# Altium schematic symbol library EceParts.SchLib: 70 symbols
Pins are listed as number, name and electrical type; pins without a type are passive.

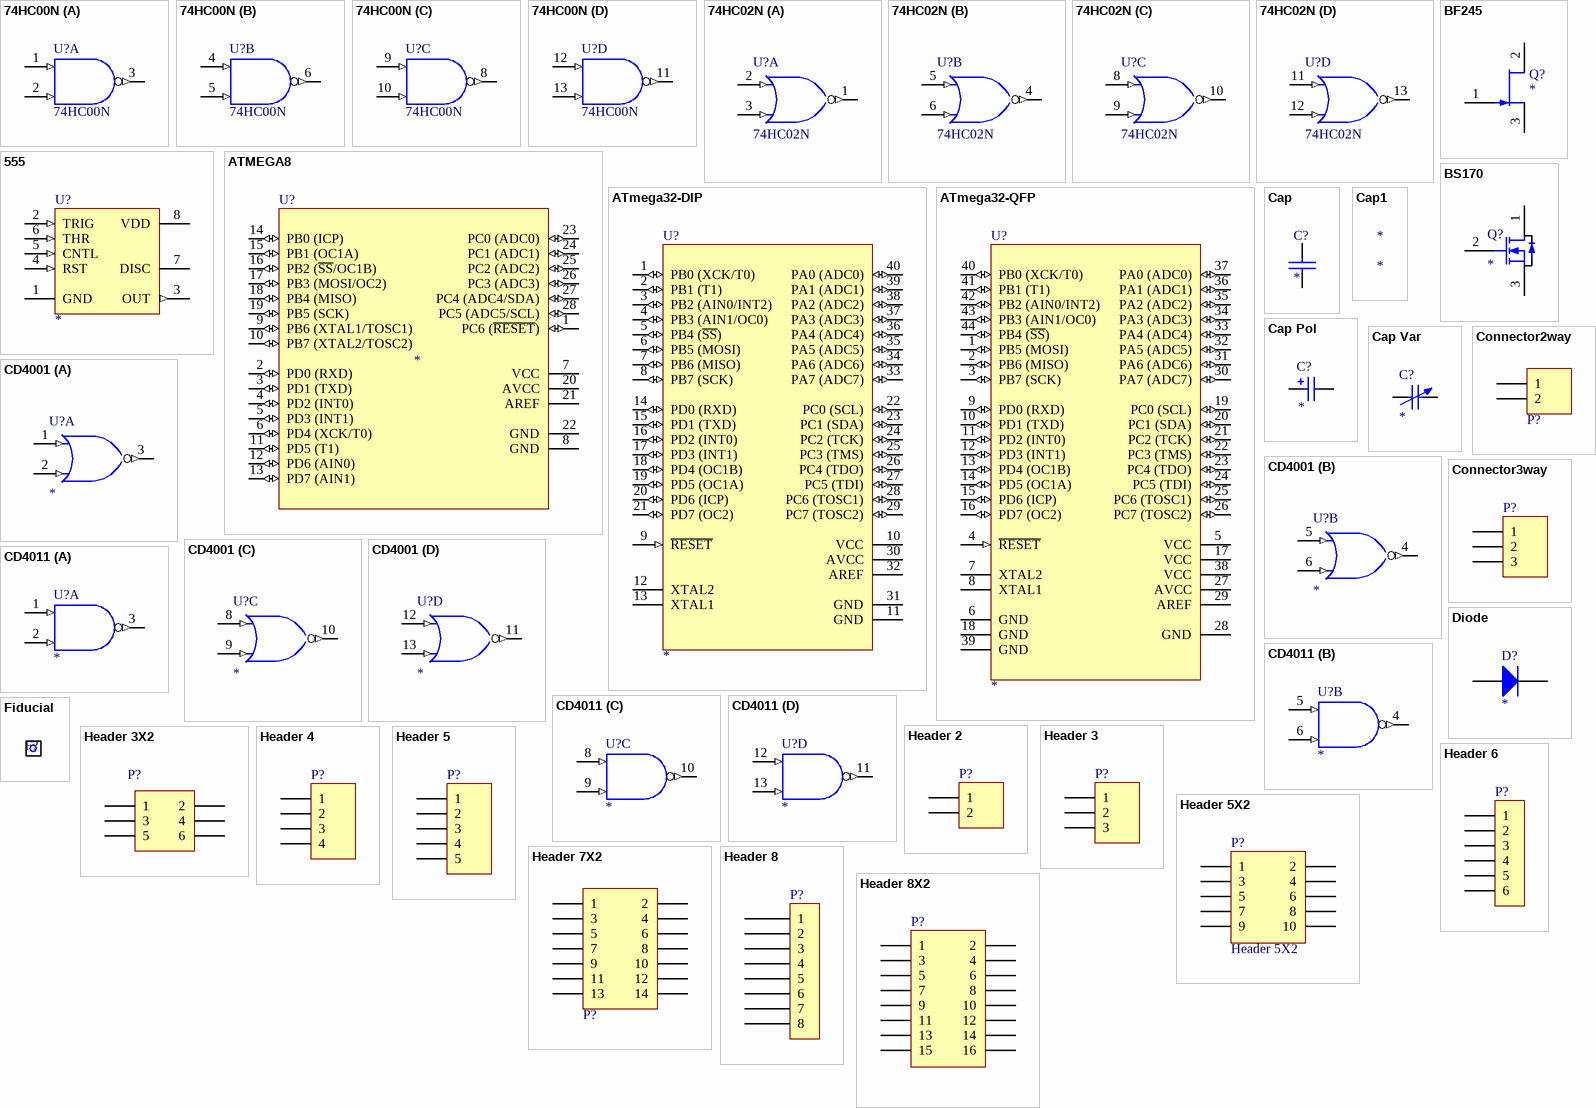
[diagram p0: symbols 74HC00N to Header 8X2]

## 74HC00N
designator U?
Quadruple 2-Input Positive-NAND Gate
pins on every part: 7 GND (power) hidden to GND, 14 VCC (power) hidden to VCC
part A pins: 1 A (in), 2 B (in), 3 Y (out)
part B pins: 4 A (in), 5 B (in), 6 Y (out)
part C pins: 8 Y (out), 9 A (in), 10 B (in)
part D pins: 11 Y (out), 12 A (in), 13 B (in)

## 74HC02N
designator U?
Quadruple 2-Input Positive-NOR Gate
pins on every part: 7 GND (power) hidden to GND, 14 VCC (power) hidden to VCC
part A pins: 1 Y (out), 2 A (in), 3 B (in)
part B pins: 4 Y (out), 5 A (in), 6 B (in)
part C pins: 8 A (in), 9 B (in), 10 Y (out)
part D pins: 11 A (in), 12 B (in), 13 Y (out)

## 555
designator U?
IC Timer
pins: 1 GND (power), 2 TRIG (in), 3 OUT (out), 4 RST (in), 5 CNTL (in), 6 THR (in), 7 DISC (oc), 8 VDD (power)

## ATMEGA8
designator U?
Atmel Micro; Value: AtMega8
pins: 1 PC6 (~{RESET}) (io), 2 PD0 (RXD) (io), 3 PD1 (TXD) (io), 4 PD2 (INT0) (io), 5 PD3 (INT1) (io), 6 PD4 (XCK/T0) (io), 7 VCC (power), 8 GND (power), 9 PB6 (XTAL1/TOSC1) (io), 10 PB7 (XTAL2/TOSC2) (io), 11 PD5 (T1) (io), 12 PD6 (AIN0) (io), 13 PD7 (AIN1) (io), 14 PB0 (ICP) (io), 15 PB1 (OC1A) (io), 16 PB2 (~{SS}/OC1B) (io), 17 PB3 (MOSI/OC2) (io), 18 PB4 (MISO) (io), 19 PB5 (SCK) (io), 20 AVCC (power), 21 AREF, 22 GND (power), 23 PC0 (ADC0) (io), 24 PC1 (ADC1) (io), 25 PC2 (ADC2) (io), 26 PC3 (ADC3) (io), 27 PC4 (ADC4/SDA) (io), 28 PC5 (ADC5/SCL) (io)

## ATmega32-DIP
designator U?
AVR 32K Bytes of In-System Programmable Flash Memory
pins: 1 PB0 (XCK/T0) (io), 2 PB1 (T1) (io), 3 PB2 (AIN0/INT2) (io), 4 PB3 (AIN1/OC0) (io), 5 PB4 (~{SS}) (io), 6 PB5 (MOSI) (io), 7 PB6 (MISO) (io), 8 PB7 (SCK) (io), 9 ~{RESET} (in), 10 VCC (power), 11 GND (power), 12 XTAL2, 13 XTAL1, 14 PD0 (RXD) (io), 15 PD1 (TXD) (io), 16 PD2 (INT0) (io), 17 PD3 (INT1) (io), 18 PD4 (OC1B) (io), 19 PD5 (OC1A) (io), 20 PD6 (ICP) (io), 21 PD7 (OC2) (io), 22 PC0 (SCL) (io), 23 PC1 (SDA) (io), 24 PC2 (TCK) (io), 25 PC3 (TMS) (io), 26 PC4 (TDO) (io), 27 PC5 (TDI) (io), 28 PC6 (TOSC1) (io), 29 PC7 (TOSC2) (io), 30 AVCC (power), 31 GND (power), 32 AREF, 33 PA7 (ADC7) (io), 34 PA6 (ADC6) (io), 35 PA5 (ADC5) (io), 36 PA4 (ADC4) (io), 37 PA3 (ADC3) (io), 38 PA2 (ADC2) (io), 39 PA1 (ADC1) (io), 40 PA0 (ADC0) (io)

## ATmega32-QFP
designator U?
AVR 32K Bytes of In-System Programmable Flash Memory
pins: 1 PB5 (MOSI) (io), 2 PB6 (MISO) (io), 3 PB7 (SCK) (io), 4 ~{RESET} (in), 5 VCC (power), 6 GND (power), 7 XTAL2, 8 XTAL1, 9 PD0 (RXD) (io), 10 PD1 (TXD) (io), 11 PD2 (INT0) (io), 12 PD3 (INT1) (io), 13 PD4 (OC1B) (io), 14 PD5 (OC1A) (io), 15 PD6 (ICP) (io), 16 PD7 (OC2) (io), 17 VCC (power), 18 GND (power), 19 PC0 (SCL) (io), 20 PC1 (SDA) (io), 21 PC2 (TCK) (io), 22 PC3 (TMS) (io), 23 PC4 (TDO) (io), 24 PC5 (TDI) (io), 25 PC6 (TOSC1) (io), 26 PC7 (TOSC2) (io), 27 AVCC (power), 28 GND (power), 29 AREF, 30 PA7 (ADC7) (io), 31 PA6 (ADC6) (io), 32 PA5 (ADC5) (io), 33 PA4 (ADC4) (io), 34 PA3 (ADC3) (io), 35 PA2 (ADC2) (io), 36 PA1 (ADC1) (io), 37 PA0 (ADC0) (io), 38 VCC (power), 39 GND (power), 40 PB0 (XCK/T0) (io), 41 PB1 (T1) (io), 42 PB2 (AIN0/INT2) (io), 43 PB3 (AIN1/OC0) (io), 44 PB4 (~{SS}) (io)

## BF245
designator Q?
N channel SFET
footprint ece-TO-92
pins: 1 G, 2 D, 3 S

## BS170
designator Q?
N Type MOSFET
pins: 1 D, 2 G, 3 S

## Cap
designator C?
Capacitor; Value: *
pins: 1, 2

## Cap1
designator *

## Cap Pol
designator C?
Polarized Capacitor (Radial); Revision: July-2002: Re-released for DXP Platform.; Value: *
pins: 1, 2

## Cap Var
designator C?
Variable or Adjustable Capacitor; Value: *
pins: 1, 2

## CD4001
designator U?
Quad 2-Input NOR
pins on every part: 7 GND (power) hidden to GND, 14 VDD (power) hidden to VDD
part A pins: 1 A (in), 2 B (in), 3 J (out)
part B pins: 4 J (out), 5 A (in), 6 B (in)
part C pins: 8 A (in), 9 B (in), 10 J (out)
part D pins: 11 J (out), 12 A (in), 13 B (in)

## CD4011
designator U?
Quad 2-Input NAND
pins on every part: 7 GND (power) hidden to GND, 14 VDD (power) hidden to VDD
part A pins: 1 A (in), 2 B (in), 3 J (out)
part B pins: 4 J (out), 5 A (in), 6 B (in)
part C pins: 8 A (in), 9 F (in), 10 J (out)
part D pins: 11 J (out), 12 A (in), 13 B (in)

## Connector2way
designator P?  (value not drawn)
2 way screw connector; Value: *
pins: 1, 2

## Connector3way
designator P?
Header, 3-Pin; Value: *
pins: 1, 2, 3

## Diode
designator D?
Diode; Value: *
pins: 1 A, 2 K

## Fiducial
designator F?  (value not drawn)
Socket; LatestRevisionDate: 17-Jul-2002; LatestRevisionNote: Re-released for DXP Platform.; Publisher: Altium Limited

## Header 2
designator P?  (value not drawn)
Header, 2-Pin
pins: 1, 2

## Header 3
designator P?  (value not drawn)
Header, 3-Pin
pins: 1, 2, 3

## Header 3X2
designator P?
Header, 3-Pin, Dual row
pins: 1, 2, 3, 4, 5, 6

## Header 4
designator P?  (value not drawn)
Header, 4-Pin
pins: 1, 2, 3, 4

## Header 5
designator P?  (value not drawn)
Header, 5-Pin
pins: 1, 2, 3, 4, 5

## Header 5X2
designator P?
Header, 5-Pin, Dual row
pins: 1, 2, 3, 4, 5, 6, 7, 8, 9, 10

## Header 6
designator P?
Header, 6-Pin
pins: 1, 2, 3, 4, 5, 6

## Header 7X2
designator P?
Header, 7-Pin, Dual row
pins: 1, 2, 3, 4, 5, 6, 7, 8, 9, 10, 11, 12, 13, 14

## Header 8
designator P?
Header, 8-Pin
pins: 1, 2, 3, 4, 5, 6, 7, 8

## Header 8X2
designator P?
Header, 8-Pin, Dual row
pins: 1, 2, 3, 4, 5, 6, 7, 8, 9, 10, 11, 12, 13, 14, 15, 16

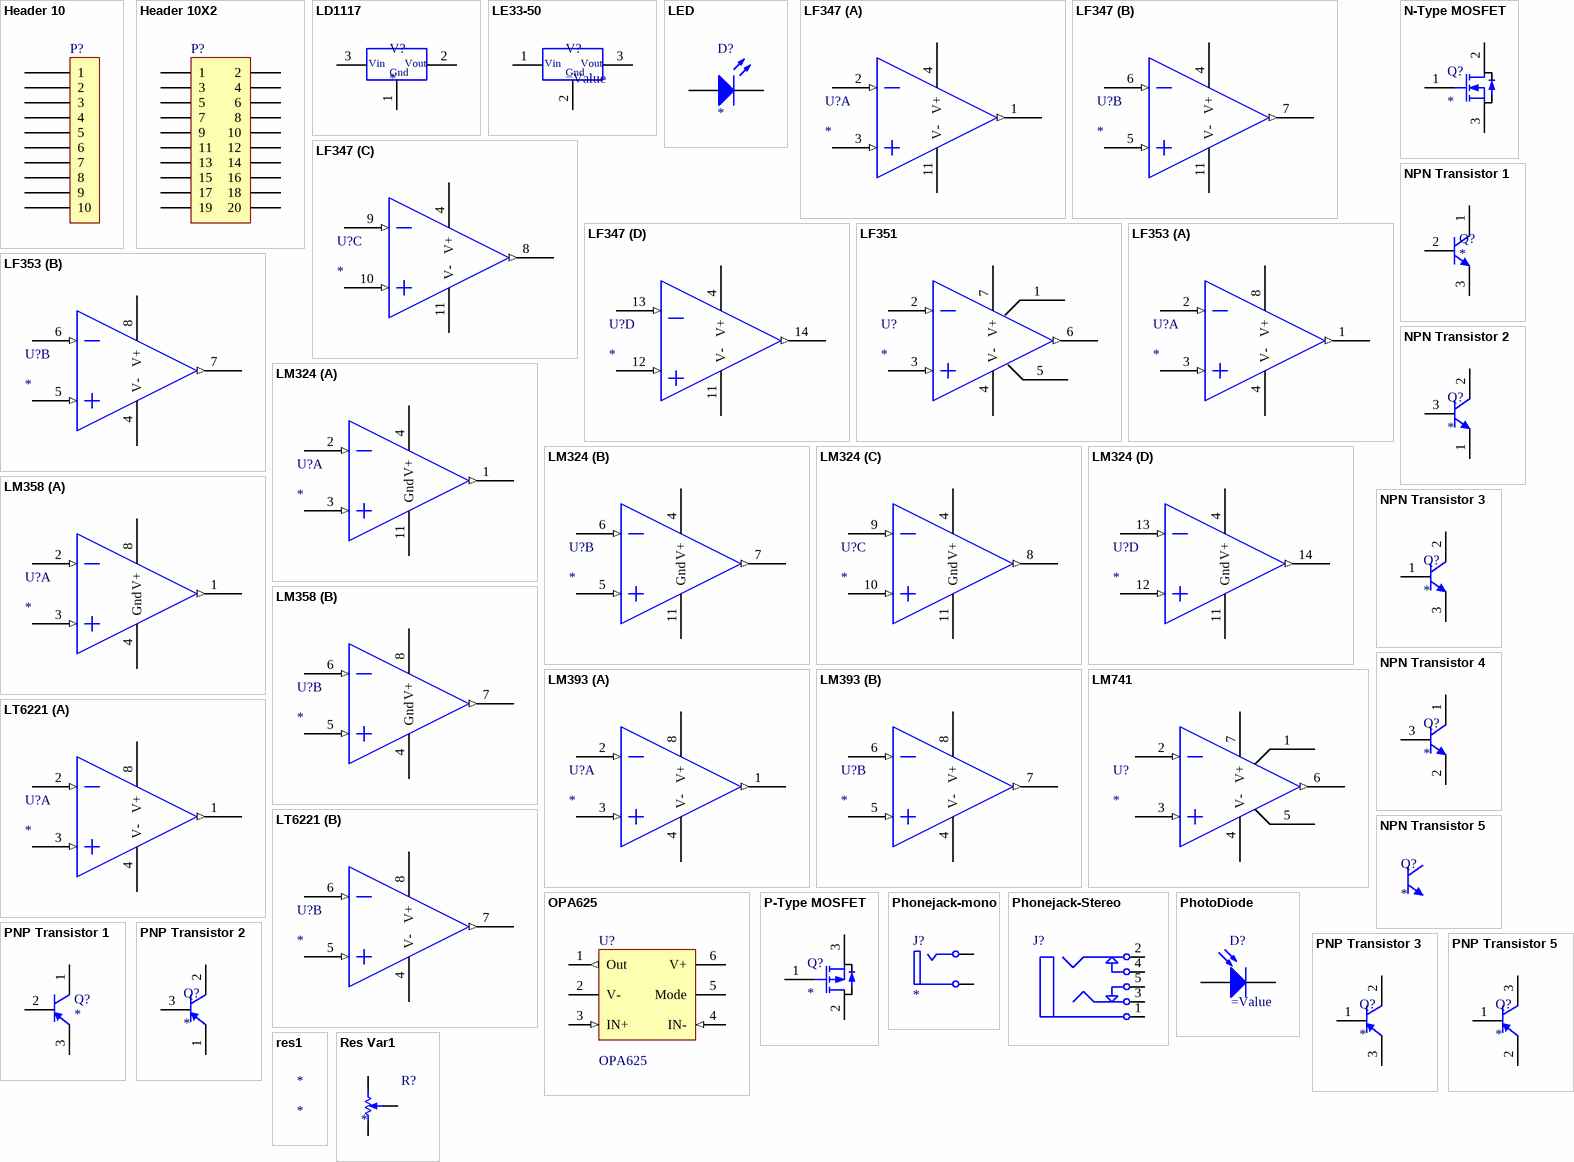
[diagram p1: symbols Header 10 to Res Var1]

## Header 10
designator P?
Header, 10-Pin
pins: 1, 2, 3, 4, 5, 6, 7, 8, 9, 10

## Header 10X2
designator P?  (value not drawn)
Header, 10-Pin, Dual row
pins: 1, 2, 3, 4, 5, 6, 7, 8, 9, 10, 11, 12, 13, 14, 15, 16, 17, 18, 19, 20

## LD1117
designator V?
LDO Voltage Regulator
footprint ECE-SOT223L (SOT223/SC73, 4-Leads, Body 6.5x3.5mm, Pitch 2.3mm, Lead Span 7mm, IPC Low Density)
pins: 1 Gnd, 2 Vout, 3 Vin

## LE33-50
designator V?
Voltage Regulator
pins: 1 Vin, 2 Gnd, 3 Vout

## LED
designator D?
LED
pins: 1 A, 2 K

## LF347
designator U?
pins on every part: 4 V+ (power), 11 V- (power)
part A pins: 1 OUT1 (out), 2 IN1(-) (in), 3 IN1(+) (in)
part B pins: 5 IN2(+) (in), 6 IN2(-) (in), 7 OUT2 (out)
part C pins: 8 OUT3 (out), 9 IN3(-) (in), 10 IN3(+) (in)
part D pins: 12 IN4(+) (in), 13 IN4(-) (in), 14 OUT4 (out)

## LF351
designator U?
pins: 1 Offset Null 1, 2 In(-) (in), 3 In(+) (in), 4 V- (power), 5 Offset Null 2, 6 Vout (out), 7 V+ (power)

## LF353
designator U?
pins on every part: 4 V- (power), 8 V+ (power)
part A pins: 1 OUT1 (out), 2 IN1(-) (in), 3 IN1(+) (in)
part B pins: 5 IN2(+) (in), 6 IN2(-) (in), 7 OUT2 (out)

## LM324
designator U?
pins on every part: 4 V+ (power), 11 Gnd (power)
part A pins: 1 OUT1 (out), 2 IN1(-) (in), 3 IN1(+) (in)
part B pins: 5 IN2+) (in), 6 IN2(-) (in), 7 OUT2 (out)
part C pins: 8 OUT3 (out), 9 IN3(-) (in), 10 IN3(+) (in)
part D pins: 12 IN4(+) (in), 13 IN4(-) (in), 14 OUT4 (out)

## LM358
designator U?
pins on every part: 4 Gnd (power), 8 V+ (power)
part A pins: 1 OUT1 (out), 2 IN1(-) (in), 3 IN1(+) (in)
part B pins: 5 IN2(+) (in), 6 IN2(-) (in), 7 OUT2 (out)

## LM393
designator U?
pins on every part: 4 V- (power), 8 V+ (power)
part A pins: 1 OUT1 (out), 2 IN1(-) (in), 3 IN1(+) (in)
part B pins: 5 IN2(+) (in), 6 IN2(-) (in), 7 OUT2 (out)

## LM741
designator U?
pins: 1 Offset Null, 2 In(-) (in), 3 In(+) (in), 4 V- (power), 5 Offset Null, 6 Vout (out), 7 V+ (power)

## LT6221
designator U?
pins on every part: 4 V- (power), 8 V+ (power)
part A pins: 1 OUT1 (out), 2 IN1(-) (in), 3 IN1(+) (in)
part B pins: 5 IN2(+) (in), 6 IN2(-) (in), 7 OUT2 (out)

## N-Type MOSFET
designator Q?
N Type MOSFET; Value: *
pins: 1 G, 2 D, 3 S

## NPN Transistor 1
designator Q?
NPN Transistor; Value: *
pins: 1 C, 2 B, 3 E

## NPN Transistor 2
designator Q?
NPN Transistor; Value: *
pins: 1 E, 2 C, 3 B

## NPN Transistor 3
designator Q?
NPN Transistor; Value: *
pins: 1 B, 2 C, 3 E, 4 C

## NPN Transistor 4
designator Q?
NPN Transistor; Value: *
pins: 1 C, 2 E, 3 B

## NPN Transistor 5
designator Q?
NPN Transistor; Value: *

## OPA625
designator U?
IC ADC Converter
pins: 1 Out (out), 2 V- (power), 3 IN+ (in), 4 IN- (in), 5 Mode, 6 V+ (power)

## P-Type MOSFET
designator Q?
MOSFET P Type; Value: *
pins: 1 G, 2 D, 3 S

## Phonejack-mono
designator J?
footprint ece-PHONEJACK/6-V2
pins: 1 T "Tip", 2 S "Sleeve (Ground)"

## Phonejack-Stereo
designator J?, comment Phonejack Stereo  (value not drawn)
footprint ECE-phonejackStereo
pins: 1, 2, 3, 4, 5

## PhotoDiode
designator D?
PhotoDiode Surface Mount
pins: 1 A, 2 K

## PNP Transistor 1
designator Q?
PNP Transistor; Value: *
pins: 1 C, 2 B, 3 E

## PNP Transistor 2
designator Q?
PNP Transistor; Value: *
pins: 1 E, 2 C, 3 B

## PNP Transistor 3
designator Q?
PNP Trnasistor; Value: *
pins: 1 B, 2 C, 3 E, 4 C

## PNP Transistor 5
designator Q?
PNP Trnasistor; Value: *
pins: 1 B, 2 E, 3 C

## res1
designator *

## Res Var1
designator R?
Variable Resistor; Value: *
pins: 1, 2, W

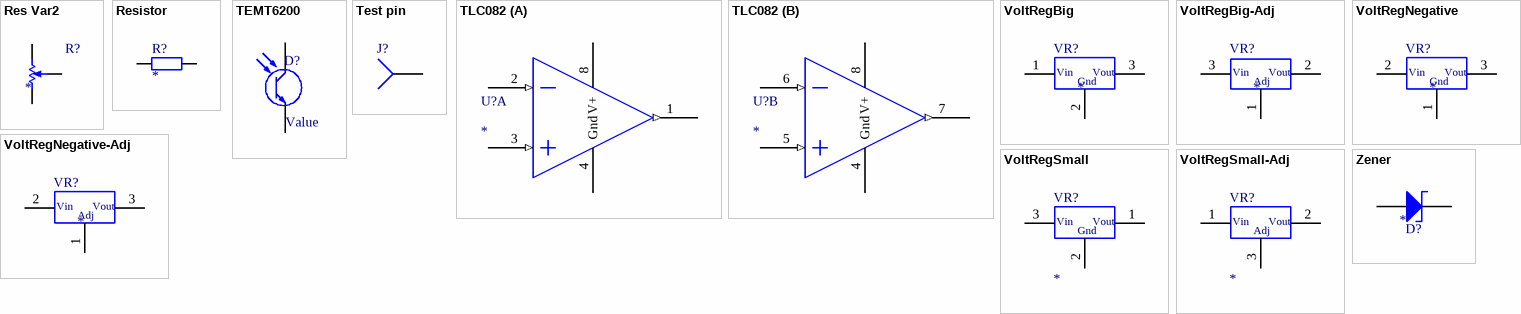
[diagram p2: symbols Res Var2 to Zener]

## Res Var2
designator R?
Variable Resistor; Value: *
pins: CCW, CW, W

## Resistor
designator R?
Resistor; Value: *
pins: 1, 2

## TEMT6200
designator D?, comment Value
Light Sensor TEMT6200; Revision: July-2002: Re-released for DXP Platform.
footprint ECE-SENSOR-0805SM (Chip Sensor, Body 2.0x1.3mm, IPC Medium Density)
pins: 1 E, 2 C

## Test pin
designator J?  (value not drawn)
Socket
pins: 1

## TLC082
designator U?
pins on every part: 4 Gnd (power), 8 V+ (power)
part A pins: 1 OUT1 (out), 2 IN1(-) (in), 3 IN1(+) (in)
part B pins: 5 IN2(+) (in), 6 IN2(-) (in), 7 OUT2 (out)

## VoltRegBig
designator VR?
Voltage Regulator; Value: *
pins: 1 Vin, 2 Gnd, 3 Vout

## VoltRegBig-Adj
designator VR?
Adjustable Voltage Regulator; Value: *
pins: 1 Adj, 2 Vout, 3 Vin

## VoltRegNegative
designator VR?
Negative Voltage Regulator; Value: *
pins: 1 Gnd, 2 Vin, 3 Vout

## VoltRegNegative-Adj
designator VR?
Negative Voltage Regulator; Value: *
pins: 1 Gnd, 2 Vin, 3 Vout
text: Adj

## VoltRegSmall
designator VR?
Voltage Regulator; Value: *
pins: 1 Vout, 2 Gnd, 3 Vin

## VoltRegSmall-Adj
designator VR?
Adjustable Voltage Regulator; Value: *
pins: 1 Vin, 2 Vout, 3 Adj

## Zener
designator D?
Zener Diode; Value: *
pins: 1 A, 2 K